# Altium schematic symbol library Schlib final.SchLib: 27 symbols
Pins are listed as number, name and electrical type; pins without a type are passive.

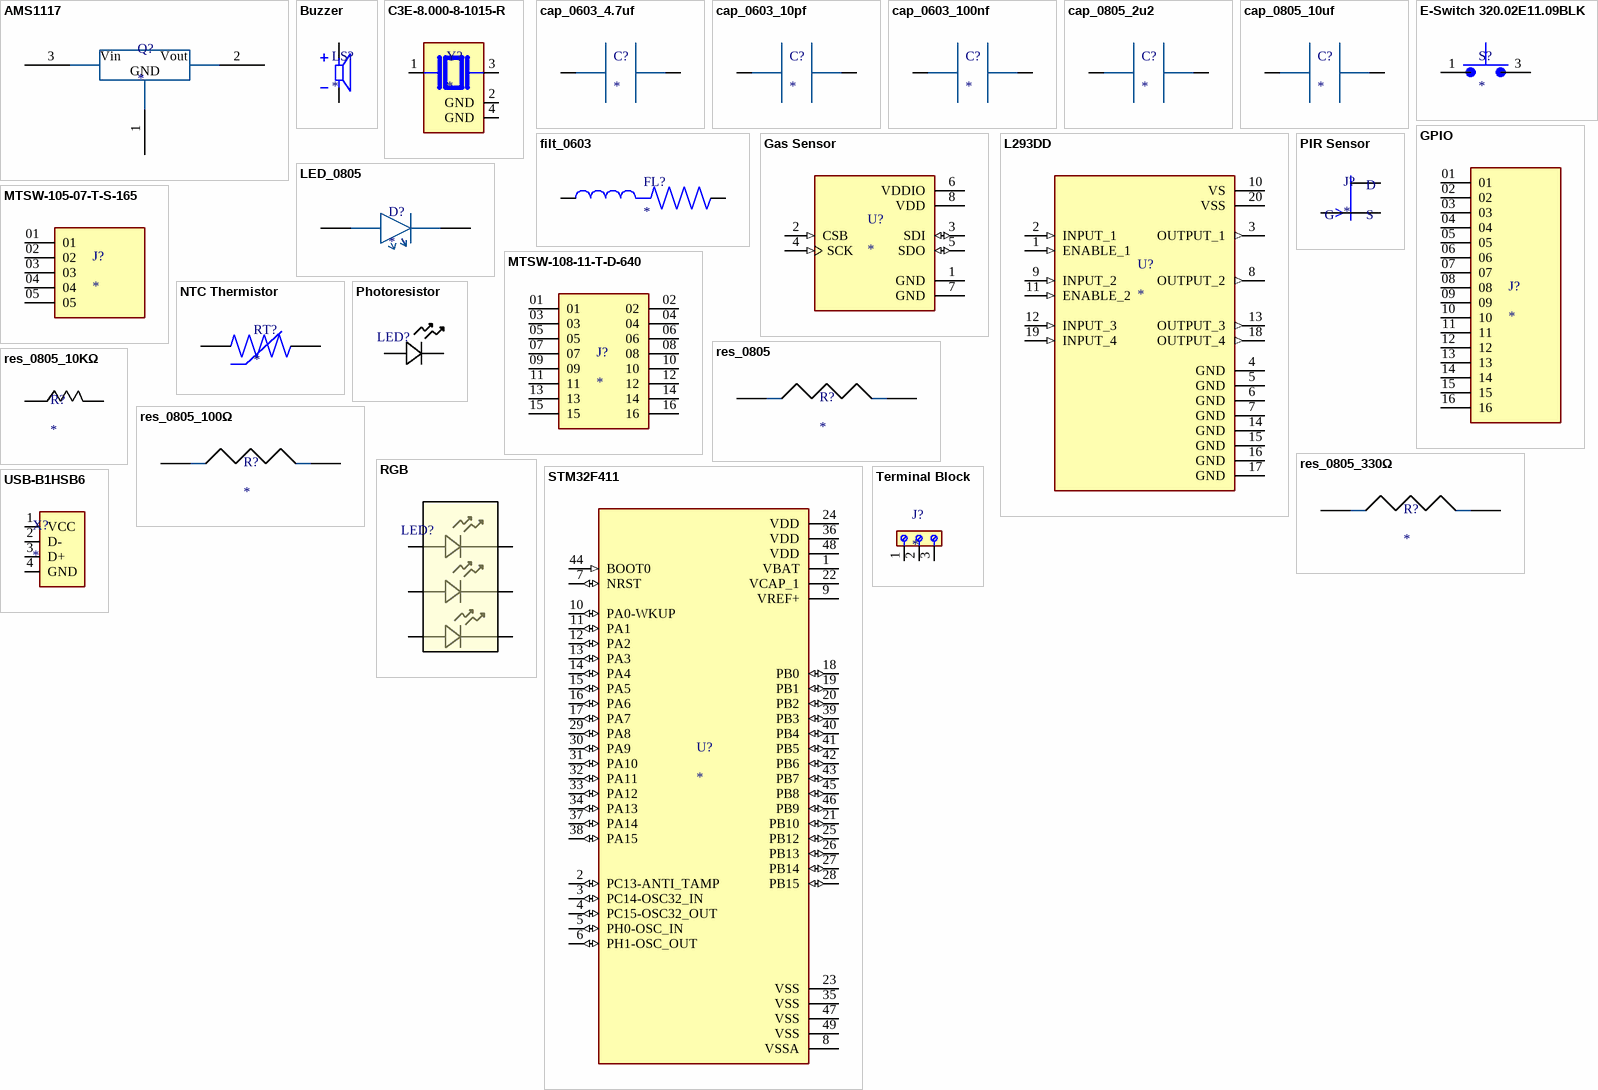
[diagram p0: symbols AMS1117 to USB-B1HSB6]

## AMS1117
designator Q?
MFR: Advanced Monolithic Systems; MFR part: AMS1117-3.3; supplier: lcsc; supplier part: C6186; ComponentLink1Description: buy; ComponentLink1URL: https://www.lcsc.com/product-detail/C6186.html?s_z=n_q_Advanced%2520Monolithic%2520Systems%2520AMS1117-3.3&spm=wm.fly.bg.0.xh&lcsc_vid=EQMKBQFTFldaAV0ERFFdUwBeRAQMVV0CRgdWAlFeEVExVlNeQFlfU1NQQlNZXzsOAxUeFF5JWBYZEEoKFBINSQcJGk4eFQsCAgIaSgADAwAHC0slQVBWUEoOAwwC
footprint AMS1117 (SOT223, 4-Leads, Body 6.50x7.00mm (avg), Pitch 2.30mm, IPC Medium Density)
pins: 1, 2, 3
text: Vin; Vout; GND

## Buzzer
designator LS?
MFR: CUI; MFR part: CMI-1210-5-95T; supplier: lcsc; supplier part: C6485139; ComponentLink1Description: buy; ComponentLink1URL: https://www.lcsc.com/product-detail/C6485139.html?s_z=n_q_CMI-1210-5-95T&spm=wm.fly.bg.0.xh&lcsc_vid=EQJbUwEATwBfUlMDRFFfBlZSEVNfAV1WQFgPU1dQRAIxVlNeT1JXUVNSQlVaVzsOAxUeFF5JWBYZEEoKFBINSQcJGk4dAgUUFAk%3D
footprint Buzzer
pins: N, P

## C3E-8.000-8-1015-R
designator Y?
MFR: AKER; MFR part: C3E-8.000-8-1015-R; supplier: lcsc; supplier part: C5588720; ComponentLink1Description: buy; ComponentLink1URL: https://www.lcsc.com/product-detail/C5588720.html?s_z=n_q_C3E-8.000-8-1015-R&spm=wm.fly.bg.0.xh&lcsc_vid=EQMKBQFTFldaAV0ERFFdUwBeRAQMVV0CRgdWAlFeEVExVlNeQFleX1FRT1FXVzsOAxUeFF5JWBYZEEoKFBINSQcJGk4eFQsCAgIaSgADAwAHC0slQVFaVVRIHxUDCw%3D%3D
footprint C3E-8.000-8-1015-R
pins: 1, 2 GND (power), 3 2, 4 GND (power)

## cap_0603_4.7uf
designator C?
MFR: Samsung Electro-Mechanics; MFR part: CL10A475KP8NNNC; supplier: lcsc; supplier part: C1705; ComponentLink1Description: buy; ComponentLink1URL: https://www.lcsc.com/product-detail/C1705.html?s_z=n_q_capacitor%25200603%25204.7u&spm=wm.fly.bg.0.xh&lcsc_vid=FlldVwBSQFlXXgVVFQBbUAUARABdUVEAEllcVQYAEgMxVlNeT1BeUVBTQ1lcVzsOAxUeFF5JWBYZEEoKFBINSQcJGk4dAgUUFAk%3D
footprint capa0805 (Chip Capacitor, 2-Leads, Body 2.00x1.25mm, IPC Medium Density)
pins: 1, 2

## cap_0603_10pf
designator C?
MFR: Samsung Electro-Mechanics; MFR part: CL10C100JB8NNNC; supplier: lcsc; supplier part: C1634; ComponentLink1Description: buy; ComponentLink1URL: https://www.lcsc.com/product-detail/C1634.html?s_z=n_q_p_Samsung%2520Electro-Mechanics%2520CL21A106KAYNNNE%252010pf&spm=wm.ssy.bg.1.xh&lcsc_vid=EQMKBQFTFldaAV0ERFFdUwBeRAQMVV0CRgdWAlFeEVExVlNeQFlfX1FURVNWXzsOAxUeFF5JWBYZEEoKFBINSQcJGk4eFQsCAgIaSgADAwAHC0slRlRWUlRIHxUDCw%3D%3D
footprint capa0805 (Chip Capacitor, 2-Leads, Body 2.00x1.25mm, IPC Medium Density)
pins: 1, 2

## cap_0603_100nf
designator C?
MFR: Samsung Electro-Mechanics; MFR part: CL10B104KB8NNNC; supplier: lcsc; supplier part: C1591; ComponentLink1Description: buy; ComponentLink1URL: https://www.lcsc.com/product-detail/C1591.html?s_z=n_q_t_Capacitors%2520100nf&spm=wm.fly.bg.0.xh___wm.ssy.tc.0.tz&lcsc_vid=EQJbUwEATwBfUlMDRFFfBlZSEVNfAV1WQFgPU1dQRAIxVlNeTlBZVFNTQFlWVTsOAxUeFF5JWBYZEEoKFBINSQcJGk4dAgUUFAk%3D
footprint capa0805 (Chip Capacitor, 2-Leads, Body 2.00x1.25mm, IPC Medium Density)
pins: 1, 2

## cap_0805_2u2
designator C?
MFR: Samsung Electro-Mechanics; MFR part: CL10A225KO8NNNC; supplier: lcsc; supplier part: C23630; ComponentLink1Description: buy; ComponentLink1URL: https://www.lcsc.com/product-detail/C23630.html?s_z=n_q_capacitor%25200603%25202.2u&spm=wm.fly.bg.0.xh&lcsc_vid=FlldVwBSQFlXXgVVFQBbUAUARABdUVEAEllcVQYAEgMxVlNeT1FXUFJRRFNfVTsOAxUeFF5JWBYZEEoKFBINSQcJGk4dBgkWGwQd
footprint capa0805 (Chip Capacitor, 2-Leads, Body 2.00x1.25mm, IPC Medium Density)
pins: 1, 2

## cap_0805_10uf
designator C?
MFR: Samsung Electro-Mechanics; MFR part: CL21A106KAYNNNE; supplier: lcsc; supplier part: C15850; ComponentLink1Description: buy; ComponentLink1URL: https://www.lcsc.com/product-detail/C15850.html?spm=wm.fly.bg.2.xh___wm.fly.tp.3.ml&lcsc_vid=EQMKBQFTFldaAV0ERFFdUwBeRAQMVV0CRgdWAlFeEVExVlNeQFBaV1xRQ1ZbUjsOAxUeFF5JWBYZEEoBGA4JCwFIFA4DSA%3D%3D
footprint capa0805 (Chip Capacitor, 2-Leads, Body 2.00x1.25mm, IPC Medium Density)
pins: 1, 2

## E-Switch 320.02E11.09BLK
designator S?
PUSHBUTTON, 25mA, 50VDC SPST-NO, Off-(On), Through Hole; MFR: E-Switch; MFR part: 320.02E11.09BLK; supplier: lcsc; supplier part: C4365219; ComponentLink1Description: buy; ComponentLink1URL: https://www.lcsc.com/product-detail/C4365219.html?s_z=n_q_320.02E11.09BLK&spm=wm.fly.bg.0.xh&lcsc_vid=EQMKBQFTFldaAV0ERFFdUwBeRAQMVV0CRgdWAlFeEVExVlNeQFlfV1VUQVVWUjsOAxUeFF5JWBYZEEoKFBINSQcJGk4NBhADEA4cHktXRlRbSQwSGg0%3D
footprint E-Switch 320.02E11.09BLK
pins: 1, 3

## filt_0603
designator FL?
MFR: muRata; MFR part: BLM18EG121SH1D; supplier: lcsc; supplier part: C160979; ComponentLink1Description: buy; ComponentLink1URL: https://www.lcsc.com/product-detail/C160979.html?s_z=n_q_BLM18EG121SH1D&spm=wm.fly.bg.0.xh&lcsc_vid=EQMKBQFTFldaAV0ERFFdUwBeRAQMVV0CRgdWAlFeEVExVlNeQFlfVVFQT1VbVzsOAxUeFF5JWBYZEEoKFBINSQcJGk4eFQsCAgIaSgADAwAHC0slQFJfU1BeTk8GEwkK
footprint BEADC1608X95N
pins: 1, 2

## Gas Sensor
designator U?
MFR: Bosch; MFR part: BME688; supplier: lcsc; supplier part: C3664478; ComponentLink1Description: buy; ComponentLink1URL: https://www.lcsc.com/product-detail/C3664478.html?s_z=n_q_x_BME688&spm=wm.ssy.em.0.tz&lcsc_vid=EQJbUwEATwBfUlMDRFFfBlZSEVNfAV1WQFgPU1dQRAIxVlNeT1RcVVRTR1BZXzsOAxUeFF5JWBYZEEoKFBINSQcJGk4dAgUUFAk%3D
footprint Gas Sensor
pins: 1 GND (power), 2 CSB (in), 3 SDI (io), 4 SCK (in), 5 SDO (io), 6 VDDIO (power), 7 GND (power), 8 VDD (power)
1 alternate drawing of the same symbol

## GPIO
designator J?
MFR: Samtec; MFR PART: TSW-116-16-G-S; supplier: lcsc; supplier part: C7075278; ComponentLink1Description: buy; ComponentLink1URL: https://www.lcsc.com/product-detail/C7075278.html?s_z=n_q_TSW-116-16-G-S&spm=wm.fly.bg.0.xh&lcsc_vid=EQMKBQFTFldaAV0ERFFdUwBeRAQMVV0CRgdWAlFeEVExVlNeT1BZUVNUQFlaUjsOAxUeFF5JWBYZEEoKFBINSQcJGk4%3D
footprint SAMTEC_TSW-116-16-G-S
pins: 01, 02, 03, 04, 05, 06, 07, 08, 09, 10, 11, 12, 13, 14, 15, 16

## L293DD
designator U?
MFR: ST; MFR part: L293DD; supplier: lcsc; supplier part: C2971293; ComponentLink1Description: buy; ComponentLink1URL: https://www.lcsc.com/product-detail/C2971293.html?s_z=n_q_x_L293DD&spm=wm.ssy.em.0.tz&lcsc_vid=EQJbUwEATwBfUlMDRFFfBlZSEVNfAV1WQFgPU1dQRAIxVlNeT1JXVVBSTlJaUzsOAxUeFF5JWBYZEEoKFBINSQcJGk4%3D
footprint L293DD
pins: 1 ENABLE_1 (in), 2 INPUT_1 (in), 3 OUTPUT_1 (out), 4 GND (power), 5 GND (power), 6 GND (power), 7 GND (power), 8 OUTPUT_2 (out), 9 INPUT_2 (in), 10 VS (power), 11 ENABLE_2 (in), 12 INPUT_3 (in), 13 OUTPUT_3 (out), 14 GND (power), 15 GND (power), 16 GND (power), 17 GND (power), 18 OUTPUT_4 (out), 19 INPUT_4 (in), 20 VSS (power)

## LED_0805
designator D?
MFR: YONGYUTAI; MFR part: YLED0805R; supplier: lcsc; supplier part: C19171391; ComponentLink1Description: buy; ComponentLink1URL: https://www.lcsc.com/product-detail/C19171391.html?s_z=n_q_t_LED%25200805&spm=wm.fly.bg.0.xh___wm.ssy.tc.0.tz&lcsc_vid=EQMKBQFTFldaAV0ERFFdUwBeRAQMVV0CRgdWAlFeEVExVlNeQFVbXl1XRlJdUTsOAxUeFF5JWBYZEEoKFBINSQcJGk4eFQsCAgIaSgADAwAHC0slRVlaVFxWTk8GEwkK
footprint LED_0805 (Chip Diode, 2-Leads, Body 2.00x1.20mm, IPC Medium Density)
pins: 1, 2

## MTSW-105-07-T-S-165
designator J?
MFR: Samtec; MFR part: MTSW-105-07-T-S-165; supplier: lcsc; supplier part: C3335287; ComponentLink1Description: buy; ComponentLink1URL: https://www.lcsc.com/product-detail/C3335287.html?s_z=n_q_MTSW-105-07-T-S-165&spm=wm.fly.bg.0.xh&lcsc_vid=EQMKBQFTFldaAV0ERFFdUwBeRAQMVV0CRgdWAlFeEVExVlNeQFlfVlVfRVVfVzsOAxUeFF5JWBYZEEoKFBINSQcJGk4dAgUUFAk%3D
footprint SAMTEC_MTSW-105-07-T-S-165
pins: 01, 02, 03, 04, 05

## MTSW-108-11-T-D-640
designator J?
MFR: Samtec; MFR part: MTSW-108-11-T-D-640; supplier: lcsc; supplier part: C7314489; ComponentLink1Description: buy; ComponentLink1URL: https://www.lcsc.com/product-detail/C7314489.html?s_z=n_q_MTSW-108-11-T-D-640&spm=wm.fly.bg.0.xh&lcsc_vid=EQMKBQFTFldaAV0ERFFdUwBeRAQMVV0CRgdWAlFeEVExVlNeQFlfVlNSQFRfVDsOAxUeFF5JWBYZEEoKFBINSQcJGk4NBhADEA4cHktRTlNADxALGw%3D%3D
footprint SAMTEC_MTSW-108-11-T-D-640
pins: 01, 02, 03, 04, 05, 06, 07, 08, 09, 10, 11, 12, 13, 14, 15, 16

## NTC Thermistor
designator RT?
MFR: muRata; MFR part: NCU15WF104D60RC; supplier: lcsc; supplier part: C426654; ComponentLink1Description: buy; ComponentLink1URL: https://www.lcsc.com/product-detail/C426654.html?s_z=n_q_NCU15WF104D60RC&spm=wm.fly.bg.0.xh&lcsc_vid=EQJbUwEATwBfUlMDRFFfBlZSEVNfAV1WQFgPU1dQRAIxVlNeT1JXVFVQQ1ZaVjsOAxUeFF5JWBYZEEoKFBINSQcJGk4NBhADEA4cHktXRVZcSQwSGg0%3D
footprint NTC Thermistor
pins: 1, 2

## Photoresistor
designator LED?
MFR: JCHL; MFR part: GL5528(10-20); supplier: lcsc; supplier part: C10081; ComponentLink1Description: buy; ComponentLink1URL: https://www.lcsc.com/product-detail/C10081.html?s_z=n_q_GL5528&spm=wm.fly.bg.1.xh&lcsc_vid=EQJbUwEATwBfUlMDRFFfBlZSEVNfAV1WQFgPU1dQRAIxVlNeTlBYXlFWQFlZUDsOAxUeFF5JWBYZEEoKFBINSQcJGk4NBhADEA4cHktXRVdeSQwSGg0%3D
footprint Photoresistor
pins: 1 CATHODE, 2 ANODE

## PIR Sensor
designator J?
MFR: Zilog; MFR part: ZRE200GE; supplier: lcsc; supplier part: C3678733; ComponentLink1Description: buy; ComponentLink1URL: https://www.lcsc.com/product-detail/C3678733.html?s_z=n_q_ZRE200GE&spm=wm.fly.bg.0.xh&lcsc_vid=EQJbUwEATwBfUlMDRFFfBlZSEVNfAV1WQFgPU1dQRAIxVlNeT1JXU1FXRFRaUTsOAxUeFF5JWBYZEEoKFBINSQcJGk4NBhADEA4cHktXRlRbSQwSGg0%3D
footprint PIR Sensor
pins: 1 D, 2 S, 3 G

## res_0805
designator R?
MFR: FOJAN; MFR part: FRC0805F1001TS; supplier: lcsc; supplier part: C2907232; ComponentLink1Description: buy; ComponentLink1URL: https://www.lcsc.com/product-detail/C2907232.html?s_z=n_q_t_0805%25201K%2520resistor&spm=wm.fly.bg.0.xh___wm.ssy.tc.0.tz&lcsc_vid=EQMKBQFTFldaAV0ERFFdUwBeRAQMVV0CRgdWAlFeEVExVlNeQFVbU1VVRVNeUDsOAxUeFF5JWBYZEEoKFBINSQcJGk4%3D
footprint Res_0805 (Chip Resistor, 2-Leads, Body 2.00x1.25mm, IPC Medium Density)
pins: 1, 2

## res_0805_10KΩ
designator R?
MFR: YAGEO; MFR part: RC0603FR-0710KL; supplier: lcsc; supplier part: C98220; ComponentLink1Description: buy; ComponentLink1URL: https://www.lcsc.com/product-detail/C98220.html?s_z=n_q_t_Resistors%25200603%252010K%25CE%25A9&spm=wm.fly.bg.0.xh___wm.ssy.tc.0.tz&lcsc_vid=FlldVwBSQFlXXgVVFQBbUAUARABdUVEAEllcVQYAEgMxVlNeT1FXX1FVQFRcVDsOAxUeFF5JWBYZEEoKFBINSQcJGk4dAgUUFAk%3D
footprint Res_0805 (Chip Resistor, 2-Leads, Body 2.00x1.25mm, IPC Medium Density)
pins: 1, 2

## res_0805_100Ω
designator R?
MFR: YAGEO; MFR part: RC0805FR-07100RL; supplier: lcsc; supplier part: C105577; ComponentLink1Description: buy; ComponentLink1URL: https://www.lcsc.com/product-detail/C2907219.html?s_z=n_q_t_Resistor%25200805%2520100&spm=wm.fly.bg.0.xh___wm.ssy.tc.0.tz&lcsc_vid=EQJbUwEATwBfUlMDRFFfBlZSEVNfAV1WQFgPU1dQRAIxVlNeTlBWV1ZVRFlfUjsOAxUeFF5JWBYZEEoKFBINSQcJGk4NBhADEA4cHktXRVFfSQwSGg0%3D
footprint Res_0805 (Chip Resistor, 2-Leads, Body 2.00x1.25mm, IPC Medium Density)
pins: 1, 2

## res_0805_330Ω
designator R?
MFR: UNI-ROYAL; MFR part: 0805W8F3300T5E; supplier: lcsc; supplier part: C17630; ComponentLink1Description: buy; ComponentLink1URL: https://www.lcsc.com/product-detail/C17630.html?s_z=n_q_Resistor%25200805%2520330%25CE%25A9&spm=wm.fly.bg.0.xh&lcsc_vid=EQJbUwEATwBfUlMDRFFfBlZSEVNfAV1WQFgPU1dQRAIxVlNeTlBWVlZXT1ldXzsOAxUeFF5JWBYZEEoKFBINSQcJGk4NBhADEA4cHktXRlhXSQwSGg0%3D
footprint Res_0805 (Chip Resistor, 2-Leads, Body 2.00x1.25mm, IPC Medium Density)
pins: 1, 2

## RGB
designator LED?
MFR: Broadcom; MFR part: ASMT-YTD7-0AA02; supplier: lcsc; supplier part: C3018557; ComponentLink1Description: buy; ComponentLink1URL: https://www.lcsc.com/product-detail/C3018557.html?s_z=n_q_ASMT-YTD7-0AA02&spm=wm.fly.bg.0.xh&lcsc_vid=EQJbUwEATwBfUlMDRFFfBlZSEVNfAV1WQFgPU1dQRAIxVlNeTlBZV1JRR1NZVzsOAxUeFF5JWBYZEEoKFBINSQcJGk4eFQsCAgIaSgADAwAHC0slRFFfX1FTQE8GEwkK
footprint RGB
pins: 1, 2, 3, 4, 5, 6

## STM32F411
designator U?
MFR: ST; MFR part: STM32F411CEU6; supplier: lcsc; supplier part: C60420; ComponentLink1Description: buy; ComponentLink1URL: https://www.lcsc.com/product-detail/C60420.html?s_z=n_q_STM32F411CEU6&spm=wm.fly.bg.0.xh&lcsc_vid=EQMKBQFTFldaAV0ERFFdUwBeRAQMVV0CRgdWAlFeEVExVlNeQFleUVFVT1hWUzsOAxUeFF5JWBYZEEoKFBINSQcJGk4NBhADEA4cHktfQ1BADxALGw%3D%3D
footprint STM32F411
pins: 1 VBAT (power), 2 PC13-ANTI_TAMP (io), 3 PC14-OSC32_IN (io), 4 PC15-OSC32_OUT (io), 5 PH0-OSC_IN (io), 6 PH1-OSC_OUT (io), 7 NRST (io), 8 VSSA (power), 9 VREF+ (power), 10 PA0-WKUP (io), 11 PA1 (io), 12 PA2 (io), 13 PA3 (io), 14 PA4 (io), 15 PA5 (io), 16 PA6 (io), 17 PA7 (io), 18 PB0 (io), 19 PB1 (io), 20 PB2 (io), 21 PB10 (io), 22 VCAP_1 (power), 23 VSS (power), 24 VDD (power), 25 PB12 (io), 26 PB13 (io), 27 PB14 (io), 28 PB15 (io), 29 PA8 (io), 30 PA9 (io), 31 PA10 (io), 32 PA11 (io), 33 PA12 (io), 34 PA13 (io), 35 VSS (power), 36 VDD (power), 37 PA14 (io), 38 PA15 (io), 39 PB3 (io), 40 PB4 (io), 41 PB5 (io), 42 PB6 (io), 43 PB7 (io), 44 BOOT0 (in), 45 PB8 (io), 46 PB9 (io), 47 VSS (power), 48 VDD (power), 49 VSS (power)

## Terminal Block
designator J?
MFR: MAX; MFR part: MX126-5.0-02P-GN01-Cu-S-A; supplier: lcsc; supplier part: C5188434; ComponentLink1Description: buy; ComponentLink1URL: https://www.lcsc.com/product-detail/C5188434.html?s_z=n_q_t_Terminal%2520Block%2520&spm=wm.fly.bg.17.xh___wm.ssy.tc.0.tz&lcsc_vid=EQJbUwEATwBfUlMDRFFfBlZSEVNfAV1WQFgPU1dQRAIxVlNeTlNfXl1VQVZfXzsOAxUeFF5JWBYZEEoKFBINSQcJGk4dAgUUFAk%3D
footprint 691216710003
pins: 1, 2, 3

## USB-B1HSB6
designator X?
MFR: On-Shore Tech; MFR part: USB-B1HSB6; ComponentLink1Description: buy; ComponentLink1URL: https://www.lcsc.com/product-detail/C3197678.html?s_z=n_q_USB-B1HSB6&spm=wm.fly.bg.0.xh&lcsc_vid=EQMKBQFTFldaAV0ERFFdUwBeRAQMVV0CRgdWAlFeEVExVlNeQFRYX1ZXT1ddUjsOAxUeFF5JWBYZEEoKFBINSQcJGk4eFQsCAgIaSgADAwAHC0slQldcXlReQ08GEwkK; supplier: lcsc; supplier part: C3197678
footprint USB-B1HSB6
pins: 1 VCC (power), 2 D- (io), 3 D+ (io), 4 GND (power)